# EAGLE library part FC1-20-L2-T-WT20PIN (library FPC)
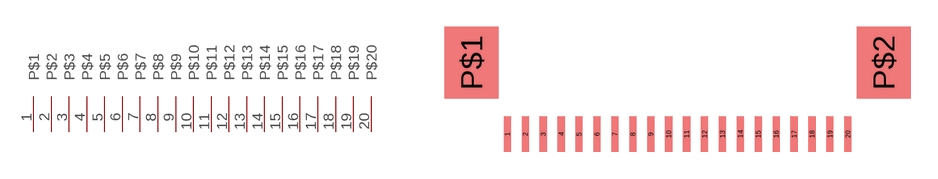
[diagram p3: symbol with the pads of FC1-20-L2-T-WT; footprint FC1-20-L2-T-WT]

Designator prefix -

## FC1-20-L2-T-WT20PIN  [FC1-20-L2-T-WT]
1  P$1
2  P$2
3  P$3
4  P$4
5  P$5
6  P$6
7  P$7
8  P$8
9  P$9
10  P$10
11  P$11
12  P$12
13  P$13
14  P$14
15  P$15
16  P$16
17  P$17
18  P$18
19  P$19
20  P$20

## Footprint FC1-20-L2-T-WT (pad centres in mm)
smd 0.4 x 2: 1 -9.5,1; 2 -8.5,1; 3 -7.5,1; 4 -6.5,1; 5 -5.5,1; 6 -4.5,1; 7 -3.5,1; 8 -2.5,1; 9 -1.5,1; 10 -0.5,1; 11 0.5,1; 12 1.5,1; 13 2.5,1; 14 3.5,1; 15 4.5,1; 16 5.5,1; 17 6.5,1; 18 7.5,1; 19 8.5,1; 20 9.5,1
smd 3 x 4: P$1 -11.5,5; P$2 11.5,5